# EAGLE library part LED-RGB (library GTA04b7)
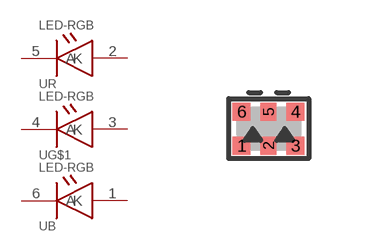
[diagram p22: symbol with the pads of SMLP36RGB2W3; footprint SMLP36RGB2W3]

Designator prefix -; gates B=LED G$1=LED R=LED

## LED-RGB-SMLP36  [SMLP36RGB2W3]
1  B:A  pwr
2  R:A  pwr
3  G$1:A  pwr
4  G$1:K  in
5  R:K  in
6  B:K  in

## Footprint SMLP36RGB2W3 (pad centres in mm)
smd 0.45 x 0.45: 1 -0.675,-0.425; 3 0.675,-0.425; 4 0.675,0.425; 6 -0.675,0.425
smd 0.4 x 0.45: 2 0,-0.425; 5 0,0.425